# Altium footprint library Crystal.PcbLib: 11 footprints
Each footprint in its own frame and in the unit in brackets; x right, y up, seen from the top. Pads: shape width x height; smd on the part's side, far side on the other; paste and mask are expansions set on the pad; w line width, h text height; cw(c..) or ccw(c..) is an arc to the next point about the centre after c.
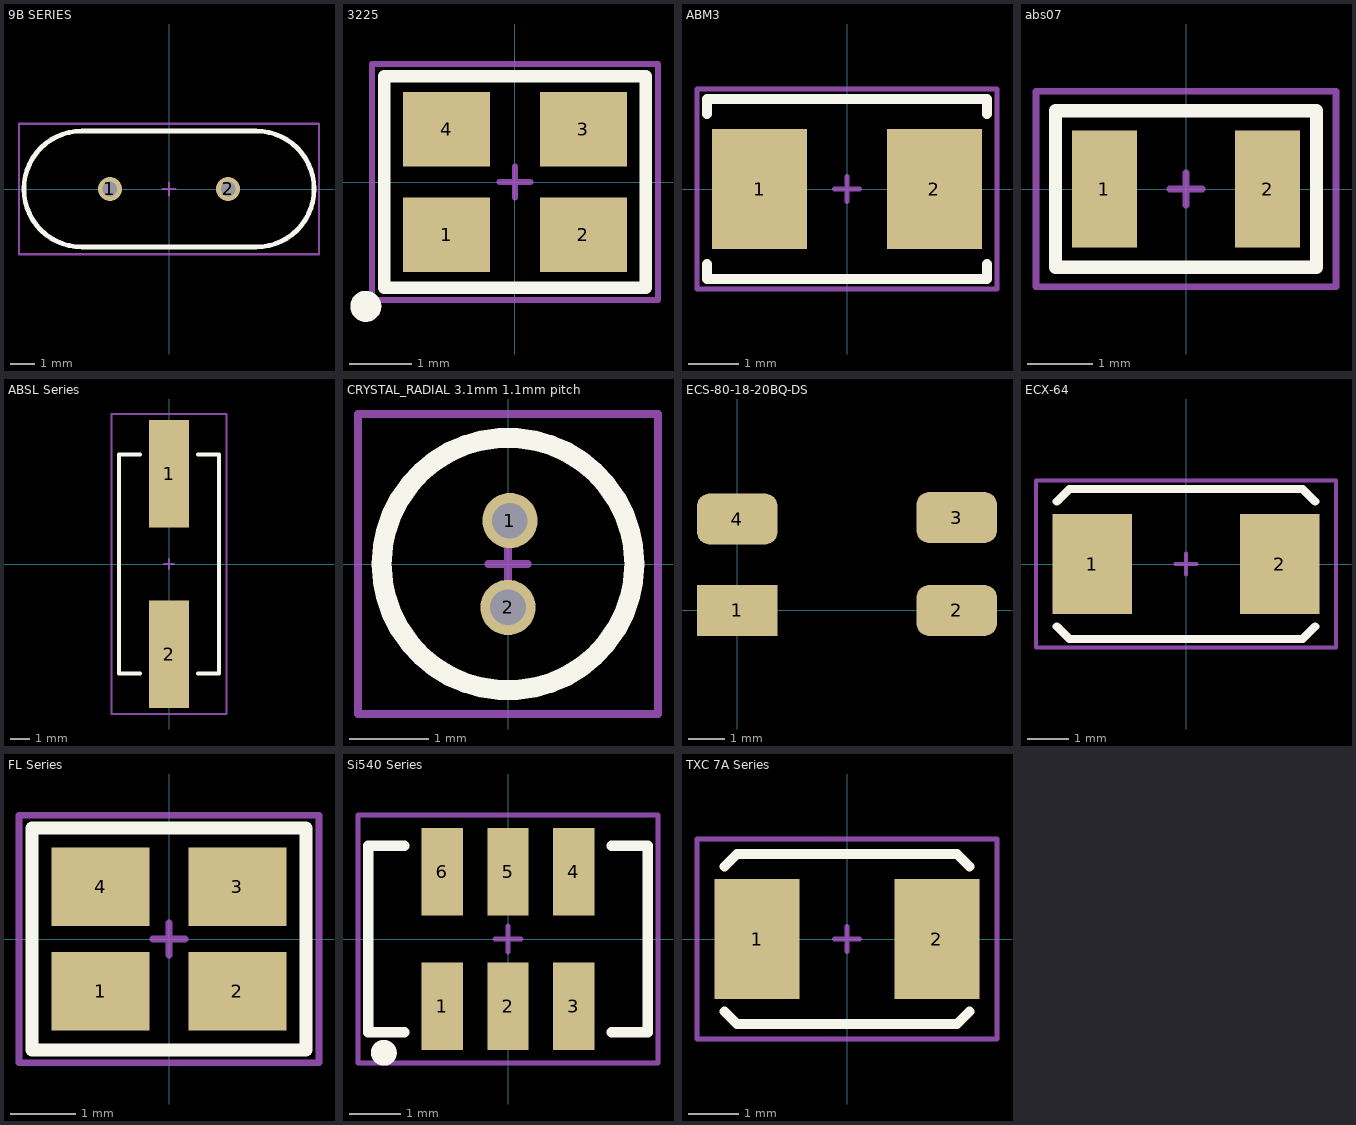
[diagram p0: the footprints below, top view; thin cyan lines are the x and y axes]

## 9B SERIES [mm] "Crystal PTH"
pads (2):
  round 1 hole 0.6: 1(-2.44,0) 2(2.44,0)
Top Overlay:
  lines w0.2: -3.6,-2.4 cw(c-3.6,0) -3.6,2.4 3.6,2.4 cw(c3.6,0) 3.6,-2.4 -3.6,-2.4
Mechanical 15:
  lines w0.1: -0.25,0 0.25,0 ; 0,-0.25 0,0.25 ; -6.2,-2.7 6.2,-2.7 6.2,2.7 -6.2,2.7 -6.2,-2.7
3D body "User Library-HP49US.step": height 3.5, standoff -4, extent -5.675,-2.325 5.675,2.325

## 3225 [mm]
height 1
pads (4):
  rect 1.4x1.2 smd: 1(-1.1,-0.85) 2(1.1,-0.85) 3(1.1,0.85) 4(-1.1,0.85)
Top Overlay:
  circle w0.25: c-2.4,-2 r0.125
  lines w0.2: -2.1,-1.7 -2.1,1.7 2.1,1.7 2.1,-1.7 -2.1,-1.7
Mechanical 15:
  lines w0.1: -0.25,0 0.25,0 ; 0,-0.25 0,0.25 ; -2.3,-1.9 2.3,-1.9 2.3,1.9 -2.3,1.9 -2.3,-1.9
3D body "User Library-3225-1.step": height 0.61, standoff 0, extent -1.6,-1.25 1.6,1.25

## ABM3 [mm]
height 1.3
pads (2):
  rect 1.9x2.4 smd: 1(-1.75,0) 2(1.75,0)
Top Overlay:
  lines w0.2: -2.8,-1.5 -2.8,-1.8 2.8,-1.8 2.8,-1.5 ; -2.8,1.5 -2.8,1.8 2.8,1.8 2.8,1.5
Mechanical 15:
  lines w0.1: -0.25,0 0.25,0 ; 0,-0.25 0,0.25 ; -3,-2 -3,2 3,2 3,-2 -3,-2
3D body "User Library-ABM3.STEP": height 1.3, standoff 0, extent -2.6,-1.7 2.6,1.7

## abs07 [mm]
height 0.9
pads (2):
  rect 1x1.8 smd: 1(-1.25,0) 2(1.25,0)
Top Overlay:
  lines w0.2: -2,-1.2 2,-1.2 2,1.2 -2,1.2 -2,-1.2
Mechanical 15:
  lines w0.1: -0.25,0 0.25,0 ; 0,-0.25 0,0.25 ; -2.3,-1.5 -2.3,1.5 2.3,1.5 2.3,-1.5 -2.3,-1.5
3D body "ABS07.STEP": height 0.91, standoff 0, extent -1.61,-0.76 1.61,0.76

## ABSL Series [mm]
pads (2):
  rect 2.1x5.6 smd paste+0: 1(0,4.7) 2(0,-4.7)
Top Overlay:
  lines w0.2: -1.5,-5.7 -2.6,-5.7 -2.6,5.7 -1.5,5.7 ; 1.5,-5.7 2.6,-5.7 2.6,5.7 1.5,5.7
Mechanical 15:
  lines w0.1: -0.25,0 0.25,0 ; 0,-0.25 0,0.25 ; -3,-7.8 -3,7.8 3,7.8 3,-7.8 -3,-7.8
3D body "43ROK0810005 - HC49.stp": height 5.08, standoff 0, extent -2.45,-6.7 2.45,6.7

## CRYSTAL_RADIAL 3.1mm 1.1mm pitch [mm] "Crystal Radial 3.1mm 1.1mm"
pads (2):
  round 0.7 hole 0.45: 1(0.025,0.55) 2(0,-0.55)
Top Overlay:
  circle w0.254: c0,0 r1.6
Mechanical 15:
  lines w0.1: -0.25,0 0.25,0 ; 0,-0.25 0,0.25 ; -1.9,-1.9 1.9,-1.9 1.9,1.9 -1.9,1.9 -1.9,-1.9
3D body "Crystal Radial 1.1mm pitch.STEP": height 8.2, standoff -2.95, extent -1.55,-1.55 1.55,1.55

## ECS-80-18-20BQ-DS [mm]
height 1.75
pads (4):
  rect 2.2x1.4 smd: 1(0,0)
  rrect50% 2.2x1.4 smd: 2(6,0) 3(6,2.54) 4(0,2.5)
3D body "ECS-80-18-20BQ-DS.STEP": height 1.3, standoff 0, extent -0.508,-1.19 6.492,3.81

## ECX-64 [mm]
height 1.1
pads (2):
  rect 1.9x2.4 smd: 1(-2.25,0) 2(2.25,0)
Top Overlay:
  lines w0.2: -3.1,-1.5 -2.8,-1.8 2.8,-1.8 3.1,-1.5 ; -3.1,1.5 -2.8,1.8 2.8,1.8 3.1,1.5
Mechanical 15:
  lines w0.1: -0.25,0 0.25,0 ; 0,-0.25 0,0.25 ; -3.6,-2 -3.6,2 3.6,2 3.6,-2 -3.6,-2
3D body "ECX-64.STEP": height 1.11, standoff 0, extent -3,-1.75 3,1.75

## FL Series [mm]
height 0.65
pads (4):
  rect 1.5x1.2 smd: 1(-1.05,-0.8) 2(1.05,-0.8) 3(1.05,0.8) 4(-1.05,0.8)
Top Overlay:
  lines w0.2: -2.1,-1.7 2.1,-1.7 2.1,1.7 -2.1,1.7 -2.1,-1.7
Mechanical 15:
  lines w0.1: -0.25,0 0.25,0 ; 0,-0.25 0,0.25 ; -2.3,-1.9 -2.3,1.9 2.3,1.9 2.3,-1.9 -2.3,-1.9
3D body "User Library-User Library-Siward_SX3225.step": height 0.81, standoff 0, extent -1.6,-1.25 1.6,1.25

## Si540 Series [mm]
height 1.27
pads (6):
  rect 0.8x1.7 smd: 1(-1.27,-1.3) 2(0,-1.3) 3(1.27,-1.3) 4(1.27,1.3) 5(0,1.3) 6(-1.27,1.3)
Top Overlay:
  circle w0.25: c-2.4,-2.2 r0.125
  lines w0.2: -2,-1.8 -2.7,-1.8 -2.7,1.8 -2,1.8 ; 2,-1.8 2.7,-1.8 2.7,1.8 2,1.8
Mechanical 15:
  lines w0.1: -0.25,0 0.25,0 ; 0,-0.25 0,0.25 ; -2.9,-2.4 2.9,-2.4 2.9,2.4 -2.9,2.4 -2.9,-2.4
3D body "Oscilator Si540 Series.STEP": height 1.27, standoff 0, extent -2.5,-1.6 2.5,1.6

## TXC 7A Series [mm]
height 0.9
pads (2):
  rect 1.7x2.4 smd: 1(-1.8,0) 2(1.8,0)
Top Overlay:
  lines w0.2: -2.45,-1.45 -2.2,-1.7 2.2,-1.7 2.45,-1.45 ; -2.45,1.45 -2.2,1.7 2.2,1.7 2.45,1.45
Mechanical 15:
  lines w0.1: -0.25,0 0.25,0 ; 0,-0.25 0,0.25 ; -3,-2 -3,2 3,2 3,-2 -3,-2
3D body "User Library-445-CRYTAL-SMD.STEP": height 1.35, standoff 0, extent -2.5,-1.6 2.5,1.6